# Altium footprint library Rising Clamp System WR-TBL_7.50 mm.PcbLib: 18 footprints (part 2 of 2)
Each footprint in its own frame and in the unit in brackets; x right, y up, seen from the top. Pads: shape width x height; smd on the part's side, far side on the other; paste and mask are expansions set on the pad; w line width, h text height; cw(c..) or ccw(c..) is an arc to the next point about the centre after c.
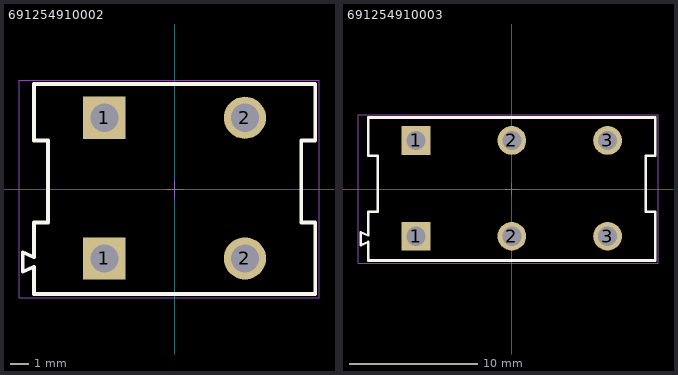
[diagram p1: the footprints below, top view; thin cyan lines are the x and y axes]

## 691254910002 [mm] "Serie 2549-7.50mm Horizontal Cable Entry with Rising Cage Clamp, 2 pins"
height 18
pads (4):
  rect 2.25x2.25 hole 1.5: 1(-3.75,-3.7) 1(-3.75,3.8)
  round 2.25 hole 1.5: 2(3.75,-3.7) 2(3.75,3.8)
Top Overlay:
  lines w0.2: -8.1,-4.41 -7.5,-4.15 -7.5,-5.6 7.5,-5.6 7.5,-1.79 6.75,-1.79 6.75,2.59 7.5,2.59 7.5,5.6 -7.5,5.6 -7.5,2.59 -6.75,2.59 -6.75,-1.79 -7.5,-1.79 -7.5,-3.64 -8.1,-3.38 -8.1,-4.41
M13 Assembly Top:
  lines w0.1: -8.1,-4.41 -8.1,-3.38 -7.5,-3.64 -7.5,-1.79 -6.75,-1.79 -6.75,2.59 -7.5,2.59 -7.5,5.6 7.5,5.6 7.5,2.59 6.75,2.59 6.75,-1.79 7.5,-1.79 7.5,-5.6 -7.5,-5.6 -7.5,-4.15 -8.1,-4.41
M15 Courtyard Top:
  lines w0.05: -0.5,0 0.5,0 ; 0,-0.5 0,0.5 ; -8.3,-5.8 7.7,-5.8 7.7,5.8 -8.3,5.8 -8.3,-5.8
3D body "691254910002.stp": height 18.1, standoff -3.4, extent -8.1,-5.6 7.5,5.6

## 691254910003 [mm] "Serie 2549-7.50mm Horizontal Cable Entry with Rising Cage Clamp, 3 pins"
height 18
pads (6):
  rect 2.25x2.25 hole 1.5: 1(-7.5,-3.7) 1(-7.5,3.8)
  round 2.25 hole 1.5: 2(0,-3.7) 2(0,3.8) 3(7.5,-3.7) 3(7.5,3.8)
Top Overlay:
  lines w0.2: -11.85,-4.41 -11.25,-4.15 -11.25,-5.6 11.25,-5.6 11.25,-1.79 10.5,-1.79 10.5,2.59 11.25,2.59 11.25,5.6 -11.25,5.6 -11.25,2.59 -10.5,2.59 -10.5,-1.79 -11.25,-1.79 -11.25,-3.64 -11.85,-3.38 -11.85,-4.41
M13 Assembly Top:
  lines w0.1: -11.85,-4.41 -11.85,-3.38 -11.25,-3.64 -11.25,-1.79 -10.5,-1.79 -10.5,2.59 -11.25,2.59 -11.25,5.6 11.25,5.6 11.25,2.59 10.5,2.59 10.5,-1.79 11.25,-1.79 11.25,-5.6 -11.25,-5.6 -11.25,-4.15 -11.85,-4.41
M15 Courtyard Top:
  lines w0.05: -0.5,0 0.5,0 ; 0,-0.5 0,0.5 ; -12.05,-5.8 11.45,-5.8 11.45,5.8 -12.05,5.8 -12.05,-5.8
3D body "691254910003.stp": height 18.1, standoff -3.4, extent -11.85,-5.6 11.25,5.6